# Altium schematic symbol library SamacSys.SchLib: 113 symbols (part 1 of 2)
Pins are listed as number, name and electrical type; pins without a type are passive.

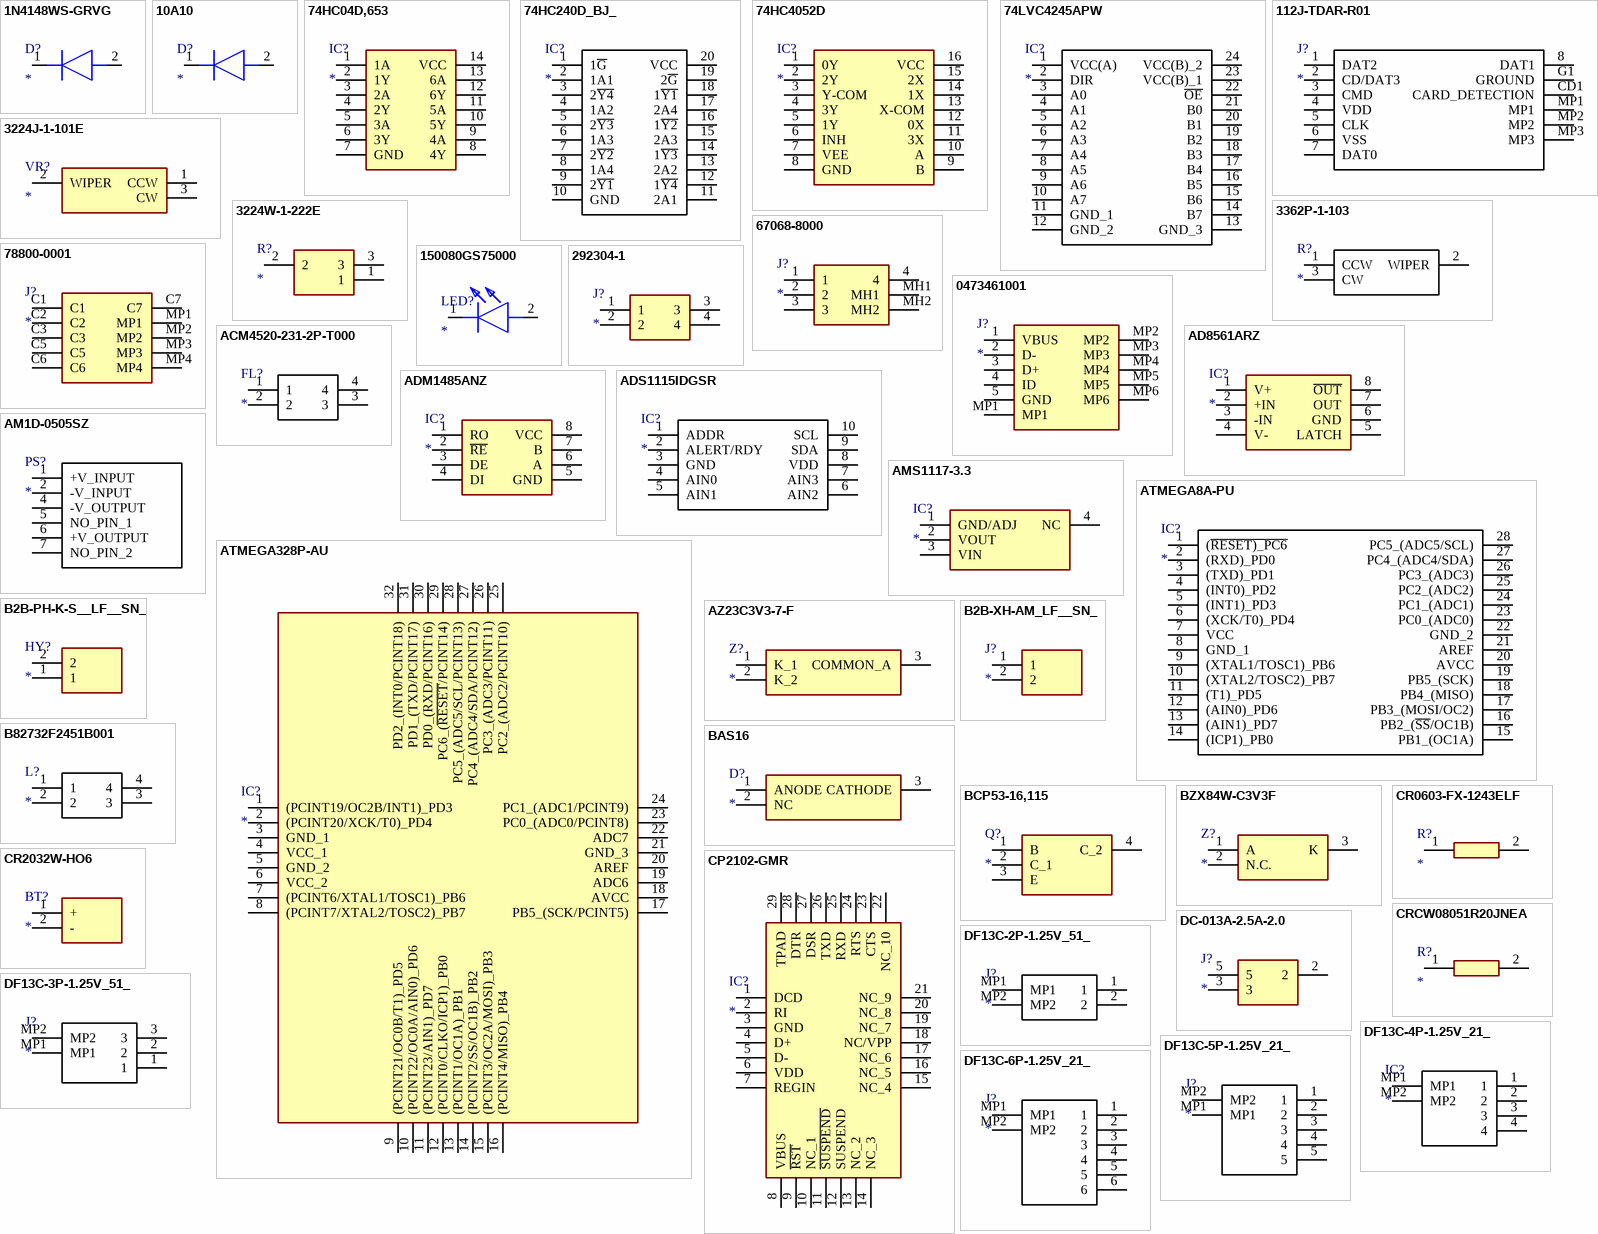
[diagram p0: symbols 1N4148WS-GRVG to DF13C-6P-1.25V_21_]

## 1N4148WS-GRVG
designator D?
Diode; Manufacturer_Name: Taiwan Semiconductor; Manufacturer_Part_Number: 1N4148WS-GRVG; Datasheet Link: https://www.mouser.co.uk/datasheet/2/395/1N4148WS_G_B14-1918089.pdf; Height: 1.1mm
footprint 1N4148WSGRVG
pins: 1 K, 2 A

## 10A10
designator D?
Diode; Manufacturer_Name: Rectron; Manufacturer_Part_Number: 10A10; Datasheet Link: https://www.rectron.com/data_sheets/10a05-10a10.pdf; Arrow Part Number: 10A10; Arrow Price/Stock: https://www.arrow.com/en/products/10a10/rectron
footprint DIOAD4425W130L885D885
pins: 1 K, 2 A

## 74HC04D,653
designator IC?
Integrated Circuit; Manufacturer_Name: Nexperia; Manufacturer_Part_Number: 74HC04D,653; Datasheet Link: https://assets.nexperia.com/documents/data-sheet/74HC_HCT04.pdf; Height: 1.75mm; Mouser Part Number: 771-74HC04D-T; Mouser Price/Stock: https://www.mouser.co.uk/ProductDetail/Nexperia/74HC04D653?qs=P62ublwmbi%252BLi7Vd8cc7xw%3D%3D; Arrow Part Number: 74HC04D,653; Arrow Price/Stock: https://www.arrow.com/en/products/74hc04d653/nexperia?region=nac
footprint SOIC127P600X175-14N
pins: 1 1A, 2 1Y, 3 2A, 4 2Y, 5 3A, 6 3Y, 7 GND, 8 4Y, 9 4A, 10 5Y, 11 5A, 12 6Y, 13 6A, 14 VCC

## 74HC240D_BJ_
designator IC?
Integrated Circuit; Manufacturer_Name: Toshiba; Manufacturer_Part_Number: 74HC240D(BJ); Datasheet Link: https://componentsearchengine.com/Datasheets/34/74HC240D(BJ).pdf; Height: 2.5mm; Mouser Part Number: 757-74HC240DBJ; Mouser Price/Stock: https://www.mouser.co.uk/ProductDetail/Toshiba/74HC240DBJ?qs=lQAVKuKFhkIlogfHm3cRuQ%3D%3D; Arrow Part Number: 74HC240D(BJ); Arrow Price/Stock: https://www.arrow.com/en/products/74hc240d-bj/toshiba?region=nac
footprint SOIC127P1030X250-20N
pins: 1 1~{G}, 2 1A1, 3 2~{Y4}, 4 1A2, 5 2~{Y3}, 6 1A3, 7 2~{Y2}, 8 1A4, 9 2~{Y1}, 10 GND, 11 2A1, 12 1~{Y4}, 13 2A2, 14 1~{Y3}, 15 2A3, 16 1~{Y2}, 17 2A4, 18 1~{Y1}, 19 2~{G}, 20 VCC

## 74HC4052D
designator IC?
Integrated Circuit; Manufacturer_Name: Toshiba; Manufacturer_Part_Number: 74HC4052D; Datasheet Link: https://toshiba.semicon-storage.com/info/docget.jsp?did=37237&prodName=74HC4052D; Height: 1.75mm; Mouser Part Number: 757-74HC4052D; Mouser Price/Stock: https://www.mouser.co.uk/ProductDetail/Toshiba/74HC4052D?qs=y6ZabgHbY%252By4uUVaPpbt4A%3D%3D; Arrow Part Number: 74HC4052D; Arrow Price/Stock: https://www.arrow.com/en/products/74hc4052d/toshiba?region=nac
footprint SOIC127P600X175-16N
pins: 1 0Y, 2 2Y, 3 Y-COM, 4 3Y, 5 1Y, 6 INH, 7 VEE, 8 GND, 9 B, 10 A, 11 3X, 12 0X, 13 X-COM, 14 1X, 15 2X, 16 VCC

## 74LVC4245APW
designator IC?
Integrated Circuit; Manufacturer_Name: Nexperia; Manufacturer_Part_Number: 74LVC4245APW; Datasheet Link: https://componentsearchengine.com/Datasheets/2/74LVC4245APW.pdf; Height: 1.1mm; Mouser Part Number: 771-74LVC4245APW; Mouser Price/Stock: https://www.mouser.co.uk/ProductDetail/Nexperia/74LVC4245APW?qs=KBAwV6Cvgt0pT9QcSc9dJg%3D%3D
footprint SOP65P640X110-24N
pins: 1 VCC(A), 2 DIR, 3 A0, 4 A1, 5 A2, 6 A3, 7 A4, 8 A5, 9 A6, 10 A7, 11 GND_1, 12 GND_2, 13 GND_3, 14 B7, 15 B6, 16 B5, 17 B4, 18 B3, 19 B2, 20 B1, 21 B0, 22 ~{OE}, 23 VCC(B)_1, 24 VCC(B)_2

## 112J-TDAR-R01
designator J?
Connector; Manufacturer_Name: ATTEND; Manufacturer_Part_Number: 112J-TDAR-R01; Datasheet Link: https://cdn.sos.sk/productdata/2c/8b/de324bd3/112j-tdar-r01.pdf; Height: 2mm
footprint 112JTDARR01
pins: 1 DAT2, 2 CD/DAT3, 3 CMD, 4 VDD, 5 CLK, 6 VSS, 7 DAT0, 8 DAT1, CD1 CARD_DETECTION, G1 GROUND, MP1, MP2, MP3

## 3224J-1-101E
designator VR?
Variable Resistor; Manufacturer_Name: Bourns; Manufacturer_Part_Number: 3224J-1-101E; Datasheet Link: https://www.bourns.com/docs/Product-Datasheets/3224.pdf; Height: 3.71mm; Mouser Part Number: 652-3224J-1-101E; Mouser Price/Stock: https://www.mouser.co.uk/ProductDetail/Bourns/3224J-1-101E?qs=UmpSLsh52mWS%252Bx139ndYjw%3D%3D; Arrow Part Number: 3224J-1-101E; Arrow Price/Stock: https://www.arrow.com/en/products/3224j-1-101e/bourns?region=nac
footprint 3224J1101E
pins: 1 CCW, 2 WIPER, 3 CW

## 3224W-1-222E
designator R?
Resistor; Manufacturer_Name: Bourns; Manufacturer_Part_Number: 3224W-1-222E; Datasheet Link: https://www.bourns.com/docs/product-datasheets/3224.pdf?sfvrsn=c872982f_7; Height: 5mm; Mouser Part Number: 652-3224W-1-222E; Mouser Price/Stock: https://www.mouser.co.uk/ProductDetail/Bourns/3224W-1-222E?qs=RXY66VkWzhRyeaZ4vtW0kA%3D%3D; Arrow Part Number: 3224W-1-222E; Arrow Price/Stock: https://www.arrow.com/en/products/3224w-1-222e/bourns?region=nac
footprint 3224W1205E
pins: 1, 2, 3

## 3362P-1-103
designator R?
Resistor; Manufacturer_Name: Bourns; Manufacturer_Part_Number: 3362P-1-103; Datasheet Link: http://www.bourns.com/docs/Product-Datasheets/3362.pdf; Mouser Part Number: 652-3362P-1-103; Mouser Price/Stock: https://www.mouser.co.uk/ProductDetail/Bourns/3362P-1-103?qs=Uf%2FsSBgPTJJhIGut%2FdpuEA%3D%3D; Arrow Part Number: 3362P-1-103; Arrow Price/Stock: https://www.arrow.com/en/products/3362p-1-103/bourns?region=nac
footprint 3362P_1
pins: 1 CCW, 2 WIPER, 3 CW

## 67068-8000
designator J?
Connector; Manufacturer_Name: Molex; Manufacturer_Part_Number: 67068-8000; Datasheet Link: https://www.molex.com/pdm_docs/sd/670688000_sd.pdf; Height: 11mm; Mouser Part Number: 538-67068-8000; Mouser Price/Stock: https://www.mouser.co.uk/ProductDetail/Molex/67068-8000?qs=N76qWb2E9MLsLGBiHvIzzg%3D%3D
footprint 670688000
pins: 1, 2, 3, 4, MH1, MH2

## 78800-0001
designator J?
Connector; Manufacturer_Name: Molex; Manufacturer_Part_Number: 78800-0001; Datasheet Link: https://www.molex.com/pdm_docs/sd/788000001_sd.pdf; Height: 1mm; Mouser Part Number: 538-78800-0001; Mouser Price/Stock: https://www.mouser.co.uk/ProductDetail/Molex/78800-0001?qs=aW78vNDzAorsg%2FJdp7zzAQ%3D%3D
footprint 788000001
pins: C1, C2, C3, C5, C6, C7, MP1, MP2, MP3, MP4

## 150080GS75000
designator LED?
LED; Manufacturer_Name: Wurth Elektronik; Manufacturer_Part_Number: 150080GS75000; Datasheet Link: https://katalog.we-online.com/led/datasheet/150080GS75000.pdf; Height: 0.8mm; Mouser Part Number: 710-150080GS75000; Mouser Price/Stock: https://www.mouser.co.uk/ProductDetail/Wurth-Elektronik/150080GS75000?qs=2kOmHSv6VfQRoTEZVk1mGA%3D%3D
footprint LEDM2012X80N
pins: 1 K, 2 A

## 292304-1
designator J?
Connector; Manufacturer_Name: TE Connectivity; Manufacturer_Part_Number: 292304-1; Datasheet Link: https://www.te.com/commerce/DocumentDelivery/DDEController?Action=srchrtrv&DocNm=7-1773442-0&DocType=Data+Sheet&DocLang=English&PartCntxt=292304-1&DocFormat=pdf; Mouser Part Number: 571-292304-1; Mouser Price/Stock: https://www.mouser.co.uk/ProductDetail/TE-Connectivity/292304-1?qs=G%2F5vCLrg9vwiXeMJMHNpsA%3D%3D; Arrow Part Number: 292304-1; Arrow Price/Stock: https://www.arrow.com/en/products/292304-1/te-connectivity?region=europe
footprint 292304
pins: 1, 2, 3, 4

## 0473461001
designator J?
Connector; Manufacturer_Name: Molex; Manufacturer_Part_Number: 0473461001; Datasheet Link: https://componentsearchengine.com/Datasheets/1/0473461001.pdf; Height: 2.45mm; Mouser Part Number: N/A; Mouser Price/Stock: https://www.mouser.co.uk/ProductDetail/Molex/0473461001?qs=2bnkQPT%252BPafTZgGVt%2FOGfA%3D%3D; Arrow Part Number: 0473461001; Arrow Price/Stock: https://www.arrow.com/en/products/0473461001/molex?region=nac
footprint 0473461001
pins: 1 VBUS, 2 D-, 3 D+, 4 ID, 5 GND, MP1, MP2, MP3, MP4, MP5, MP6

## ACM4520-231-2P-T000
designator FL?
Filter; Manufacturer_Name: TDK; Manufacturer_Part_Number: ACM4520-231-2P-T000; Datasheet Link: https://product.tdk.com/system/files/dam/doc/product/emc/emc/cmf_cmc/catalog/cmf_commercial_power_acm4520_en.pdf; Height: 2mm; Mouser Part Number: 810-ACM45202312PT000; Mouser Price/Stock: https://www.mouser.co.uk/ProductDetail/TDK/ACM4520-231-2P-T000?qs=5GteYzHiykb46N2hyQaQCQ%3D%3D; Arrow Part Number: ACM4520-231-2P-T000; Arrow Price/Stock: https://www.arrow.com/en/products/acm4520-231-2p-t000/tdk?region=nac
footprint ACM45204212PT000
pins: 1, 2, 3, 4

## AD8561ARZ
designator IC?
Integrated Circuit; Manufacturer_Name: Analog Devices; Manufacturer_Part_Number: AD8561ARZ; Datasheet Link: https://www.analog.com/media/en/technical-documentation/data-sheets/AD8561.pdf; Height: 1.75mm; Mouser Part Number: 584-AD8561ARZ; Mouser Price/Stock: https://www.mouser.co.uk/ProductDetail/Analog-Devices/AD8561ARZ/?qs=%2FtpEQrCGXCwrhzI1IeoroA%3D%3D; Arrow Part Number: AD8561ARZ; Arrow Price/Stock: https://www.arrow.com/en/products/ad8561arz/analog-devices
footprint SOIC127P600X175-8N
pins: 1 V+, 2 +IN, 3 -IN, 4 V-, 5 LATCH, 6 GND, 7 OUT, 8 ~{OUT}

## ADM1485ANZ
designator IC?
Integrated Circuit; Manufacturer_Name: Analog Devices; Manufacturer_Part_Number: ADM1485ANZ; Datasheet Link: http://www.analog.com/media/en/technical-documentation/data-sheets/ADM1485.pdf; Height: 5.33mm; Mouser Part Number: 584-ADM1485ANZ; Mouser Price/Stock: https://www.mouser.co.uk/ProductDetail/Analog-Devices/ADM1485ANZ?qs=BpaRKvA4VqHXMR8sg0zYeQ%3D%3D; Arrow Part Number: ADM1485ANZ; Arrow Price/Stock: https://www.arrow.com/en/products/adm1485anz/analog-devices
footprint DIP794W56P254L959H533Q8N
pins: 1 RO, 2 ~{RE}, 3 DE, 4 DI, 5 GND, 6 A, 7 B, 8 VCC

## ADS1115IDGSR
designator IC?
Integrated Circuit; Manufacturer_Name: Texas Instruments; Manufacturer_Part_Number: ADS1115IDGSR; Datasheet Link: http://www.ti.com/lit/gpn/ADS1115; Height: 1.1mm; Mouser Part Number: 595-ADS1115IDGSR; Mouser Price/Stock: https://www.mouser.co.uk/ProductDetail/Texas-Instruments/ADS1115IDGSR?qs=IK5e5L0zOXjKCJoVMhYO%2FQ%3D%3D; Arrow Part Number: ADS1115IDGSR; Arrow Price/Stock: https://www.arrow.com/en/products/ads1115idgsr/texas-instruments?region=nac
footprint SOP50P490X110-10N
pins: 1 ADDR, 2 ALERT/RDY, 3 GND, 4 AIN0, 5 AIN1, 6 AIN2, 7 AIN3, 8 VDD, 9 SDA, 10 SCL

## AM1D-0505SZ
designator PS?
Power Supply; Manufacturer_Name: aimtec; Manufacturer_Part_Number: AM1D-0505SZ; Datasheet Link: https://www.arrow.com/en/products/am1d-0505sz/aimtec; Height: 10.5mm; Arrow Part Number: AM1D-0505SZ; Arrow Price/Stock: https://www.arrow.com/en/products/am1d-0505sz/aimtec
footprint AM1D0505SZ
pins: 1 +V_INPUT, 2 -V_INPUT, 4 -V_OUTPUT, 5 NO_PIN_1, 6 +V_OUTPUT, 7 NO_PIN_2

## AMS1117-3.3
designator IC?
Integrated Circuit; Manufacturer_Name: Advanced; Manufacturer_Part_Number: AMS1117-3.3; Datasheet Link: https://datasheet.datasheetarchive.com/originals/distributors/Datasheets-28/DSA-550594.pdf; Height: 1.8mm
footprint SOT229P700X180-4N
pins: 1 GND/ADJ, 2 VOUT, 3 VIN, 4 NC

## ATMEGA8A-PU
designator IC?
Integrated Circuit; Manufacturer_Name: Microchip; Manufacturer_Part_Number: ATMEGA8A-PU; Datasheet Link: http://www.atmel.com/images/atmel-8159-8-bit-avr-microcontroller-atmega8a_summary.pdf; Height: 4.572mm; Mouser Part Number: 556-ATMEGA8A-PU; Mouser Price/Stock: https://www.mouser.co.uk/ProductDetail/Microchip-Technology/ATMEGA8A-PU?qs=iKytVS9glgYDJuUgqldMDA%3D%3D; Arrow Part Number: ATMEGA8A-PU; Arrow Price/Stock: https://www.arrow.com/en/products/atmega8a-pu/microchip-technology?region=nac
footprint DIP794W53P254L3467H457Q28N
pins: 1 (~{RESET)_PC6}, 2 (RXD)_PD0, 3 (TXD)_PD1, 4 (INT0)_PD2, 5 (INT1)_PD3, 6 (XCK/T0)_PD4, 7 VCC, 8 GND_1, 9 (XTAL1/TOSC1)_PB6, 10 (XTAL2/TOSC2)_PB7, 11 (T1)_PD5, 12 (AIN0)_PD6, 13 (AIN1)_PD7, 14 (ICP1)_PB0, 15 PB1_(OC1A), 16 PB2_(~{SS}/OC1B), 17 PB3_(MOSI/OC2), 18 PB4_(MISO), 19 PB5_(SCK), 20 AVCC, 21 AREF, 22 GND_2, 23 PC0_(ADC0), 24 PC1_(ADC1), 25 PC2_(ADC2), 26 PC3_(ADC3), 27 PC4_(ADC4/SDA), 28 PC5_(ADC5/SCL)

## ATMEGA328P-AU
designator IC?
Integrated Circuit; Manufacturer_Name: Microchip; Manufacturer_Part_Number: ATMEGA328P-AU; Datasheet Link: https://componentsearchengine.com/Datasheets/2/ATMEGA328P-AU.pdf; Height: 1.2mm; Mouser Part Number: 556-ATMEGA328P-AU; Mouser Price/Stock: https://www.mouser.co.uk/ProductDetail/Microchip-Technology-Atmel/ATMEGA328P-AU?qs=K8BHR703ZXiCmmgp6%2FGNmQ%3D%3D; Arrow Part Number: ATMEGA328P-AU; Arrow Price/Stock: https://www.arrow.com/en/products/atmega328p-au/microchip-technology?region=nac
footprint QFP80P900X900X120-32N
pins: 1 (PCINT19/OC2B/INT1)_PD3, 2 (PCINT20/XCK/T0)_PD4, 3 GND_1, 4 VCC_1, 5 GND_2, 6 VCC_2, 7 (PCINT6/XTAL1/TOSC1)_PB6, 8 (PCINT7/XTAL2/TOSC2)_PB7, 9 (PCINT21/OC0B/T1)_PD5, 10 (PCINT22/OC0A/AIN0)_PD6, 11 (PCINT23/AIN1)_PD7, 12 (PCINT0/CLKO/ICP1)_PB0, 13 (PCINT1/OC1A)_PB1, 14 (PCINT2/SS/OC1B)_PB2, 15 (PCINT3/OC2A/MOSI)_PB3, 16 (PCINT4/MISO)_PB4, 17 PB5_(SCK/PCINT5), 18 AVCC, 19 ADC6, 20 AREF, 21 GND_3, 22 ADC7, 23 PC0_(ADC0/PCINT8), 24 PC1_(ADC1/PCINT9), 25 PC2_(ADC2/PCINT10), 26 PC3_(ADC3/PCINT11), 27 PC4_(ADC4/SDA/PCINT12), 28 PC5_(ADC5/SCL/PCINT13), 29 PC6_(~{RESET}/PCINT14), 30 PD0_(RXD/PCINT16), 31 PD1_(TXD/PCINT17), 32 PD2_(INT0/PCINT18)

## AZ23C3V3-7-F
designator Z?
Zener Diode; Manufacturer_Name: Diodes Inc.; Manufacturer_Part_Number: AZ23C3V3-7-F; Datasheet Link: http://uk.rs-online.com/web/p/products/1220006; Height: 1.2mm; Mouser Part Number: 621-AZ23C3V3-7-F; Mouser Price/Stock: https://www.mouser.co.uk/ProductDetail/Diodes-Incorporated/AZ23C3V3-7-F?qs=rGAXPo9uwV1wE7LTrP7l4Q%3D%3D; Arrow Part Number: AZ23C3V3-7-F; Arrow Price/Stock: https://www.arrow.com/en/products/az23c3v3-7-f/diodes-incorporated
footprint SOT96P240X120-3N
pins: 1 K_1, 2 K_2, 3 COMMON_A

## B2B-PH-K-S__LF__SN_
designator HY?
Circulator or Directional Coupler; Manufacturer_Name: JST (JAPAN SOLDERLESS TERMINALS); Manufacturer_Part_Number: B2B-PH-K-S (LF)(SN); Datasheet Link: http://www.jst-mfg.com/product/pdf/eng/ePH.pdf; Height: 6mm
footprint B2BPHKSLFSN
pins: 1, 2

## B2B-XH-AM_LF__SN_
designator J?
Connector; Manufacturer_Name: JST (JAPAN SOLDERLESS TERMINALS); Manufacturer_Part_Number: B2B-XH-AM(LF)(SN); Datasheet Link: https://www.jst-mfg.com/product/pdf/eng/eXH.pdf; Height: 7mm; Arrow Part Number: B2B-XH-AM(LF)(SN); Arrow Price/Stock: https://www.arrow.com/en/products/b2b-xh-am-lf-sn/jst-manufacturing?region=europe
footprint B2BXHAMLFSN
pins: 1, 2

## B82732F2451B001
designator L?
Inductor; Manufacturer_Name: TDK; Manufacturer_Part_Number: B82732F2451B001; Datasheet Link: https://product.tdk.com/system/files/dam/doc/product/emc/emc/line-filter/data_sheet/30/db/ind_2008/b82732f.pdf; Height: 13.5mm; Mouser Part Number: 871-B82732F2451B001; Mouser Price/Stock: https://www.mouser.co.uk/ProductDetail/EPCOS-TDK/B82732F2451B001?qs=pGJ4H8VyKtVb1KdZtv%252B2tQ%3D%3D; Arrow Part Number: B82732F2451B001; Arrow Price/Stock: https://www.arrow.com/en/products/b82732f2451b001/epcos-tdk
footprint B82732F2451B001
pins: 1, 2, 3, 4

## BAS16
designator D?
Diode; Manufacturer_Name: Infineon; Manufacturer_Part_Number: BAS16; Datasheet Link: https://www.infineon.com/dgdl/Infineon-BAS16SERIES-DS-v01_01-en.pdf?fileId=db3a30431400ef6801141b93811b03ff; Height: 1.1mm
footprint SOT95P240X110-3N
pins: 1 ANODE, 2 NC, 3 CATHODE

## BCP53-16,115
designator Q?
Transistor BJT NPN; Manufacturer_Name: Nexperia; Manufacturer_Part_Number: BCP53-16,115; Datasheet Link: https://assets.nexperia.com/documents/data-sheet/BCP53_BCX53_BC53PA.pdf; Height: 1.8mm; Mouser Part Number: 771-BCP53-16115; Mouser Price/Stock: https://www.mouser.co.uk/ProductDetail/Nexperia/BCP53-16115?qs=me8TqzrmIYXZPUhLmlB%252BRQ%3D%3D; Arrow Part Number: BCP53-16,115; Arrow Price/Stock: https://www.arrow.com/en/products/bcp53-16115/nexperia?region=nac
footprint SOT230P700X180-4N
pins: 1 B, 2 C_1, 3 E, 4 C_2

## BZX84W-C3V3F
designator Z?
Zener Diode; Manufacturer_Name: Nexperia; Manufacturer_Part_Number: BZX84W-C3V3F; Datasheet Link: https://assets.nexperia.com/documents/data-sheet/BZX84W_SER.pdf; Height: 1.1mm; Mouser Part Number: 771-BZX84W-C3V3F; Mouser Price/Stock: https://www.mouser.co.uk/ProductDetail/Nexperia/BZX84W-C3V3F?qs=MLItCLRbWsyTlmZP9y0kXg%3D%3D; Arrow Part Number: BZX84W-C3V3F; Arrow Price/Stock: https://www.arrow.com/en/products/bzx84w-c3v3f/nexperia
footprint SOT65P210X110-3N
pins: 1 A, 2 N.C., 3 K

## CP2102-GMR
designator IC?
Integrated Circuit; Manufacturer_Name: Silicon Labs; Manufacturer_Part_Number: CP2102-GMR; Datasheet Link: https://www.silabs.com/Support%20Documents/TechnicalDocs/CP2102-9.pdf; Height: 1mm; Mouser Part Number: 634-CP2102-GMR; Mouser Price/Stock: https://www.mouser.co.uk/ProductDetail/Silicon-Labs/CP2102-GMR?qs=cNyzPCcHMUWu%2FiPhR8KQAw%3D%3D; Arrow Part Number: CP2102-GMR; Arrow Price/Stock: https://www.arrow.com/en/products/cp2102-gmr/silicon-labs?region=nac
footprint QFN50P500X500X100-29N-D
pins: 1 DCD, 2 RI, 3 GND, 4 D+, 5 D-, 6 VDD, 7 REGIN, 8 VBUS, 9 ~{RST}, 10 NC_1, 11 ~{SUSPEND}, 12 SUSPEND, 13 NC_2, 14 NC_3, 15 NC_4, 16 NC_5, 17 NC_6, 18 NC/VPP, 19 NC_7, 20 NC_8, 21 NC_9, 22 NC_10, 23 CTS, 24 RTS, 25 RXD, 26 TXD, 27 DSR, 28 DTR, 29 TPAD

## CR0603-FX-1243ELF
designator R?
Resistor; Manufacturer_Name: Bourns; Manufacturer_Part_Number: CR0603-FX-1243ELF; Datasheet Link: https://www.bourns.com/pdfs/chpreztr.pdf; Height: 0.55mm; Mouser Part Number: 652-CR0603FX-1243ELF; Mouser Price/Stock: https://www.mouser.com/Search/Refine.aspx?Keyword=652-CR0603FX-1243ELF; Arrow Part Number: CR0603-FX-1243ELF; Arrow Price/Stock: https://www.arrow.com/en/products/cr0603-fx-1243elf/bourns
footprint RESC1608X55N
pins: 1, 2

## CR2032W-HO6
designator BT?
Battery; Manufacturer_Name: Murata Electronics; Manufacturer_Part_Number: CR2032W-HO6; Datasheet Link: https://www.arrow.com/en/products/cr2032w-ho6/murata-manufacturing; Height: 3.8mm; Mouser Part Number: 81-CR2032W-HO6; Mouser Price/Stock: https://www.mouser.co.uk/ProductDetail/Murata-Electronics/CR2032W-HO6?qs=GBLSl2AkiruiOpMwGL%2Figg%3D%3D; Arrow Part Number: CR2032W-HO6; Arrow Price/Stock: https://www.arrow.com/en/products/cr2032w-ho6/murata-manufacturing?region=nac
footprint CR2032WHO6
pins: 1 +, 2 -

## CRCW08051R20JNEA
designator R?
Resistor; Manufacturer_Name: Vishay; Manufacturer_Part_Number: CRCW08051R20JNEA; Datasheet Link: http://www.vishay.com/docs/20035/dcrcwe3.pdf; Height: 0.5mm; Mouser Part Number: 71-CRCW08051R20JNEA; Mouser Price/Stock: https://www.mouser.com/Search/Refine.aspx?Keyword=71-CRCW08051R20JNEA
footprint RESC2012X50N
pins: 1, 2

## DC-013A-2.5A-2.0
designator J?
Connector; Manufacturer_Name: XKB Connectivity; Manufacturer_Part_Number: DC-013A-2.5A-2.0; Datasheet Link: http://www.helloxkb.com/public/images/pdf/DC-013A-2.5A-2.0.pdf; Height: 13.5mm
footprint DC013A25A20
pins: 2, 3, 5

## DF13C-2P-1.25V_51_
designator J?
Connector; Manufacturer_Name: Hirose; Manufacturer_Part_Number: DF13C-2P-1.25V(51); Datasheet Link: https://datasheet.datasheetarchive.com/originals/distributors/SFDatasheet-1/sf-00023455.pdf; Height: 5.8mm; Mouser Part Number: 798-DF13C-2P-1.25V51; Mouser Price/Stock: https://www.mouser.co.uk/ProductDetail/Hirose-Connector/DF13C-2P-1.25V51?qs=Ux3WWAnHpjA%252B9rGcuztzMg%3D%3D; Arrow Part Number: DF13C-2P-1.25V(51); Arrow Price/Stock: https://www.arrow.com/en/products/df13c-2p-1.25v-51/hirose-electric
footprint DF13C2P125V51
pins: 1, 2, MP1, MP2

## DF13C-3P-1.25V_51_
designator J?
Connector; Manufacturer_Name: Hirose; Manufacturer_Part_Number: DF13C-3P-1.25V(51); Datasheet Link: https://docs.rs-online.com/ac21/0900766b81133941.pdf; Mouser Part Number: 798-DF13C-3P-1.25V51; Mouser Price/Stock: https://www.mouser.co.uk/ProductDetail/Hirose-Connector/DF13C-3P-1.25V51?qs=Ux3WWAnHpjA9%2FWOz3nSyXA%3D%3D
footprint DF13C3P125V51
pins: 1, 2, 3, MP1, MP2

## DF13C-4P-1.25V_21_
designator IC?
Integrated Circuit; Manufacturer_Name: Hirose; Manufacturer_Part_Number: DF13C-4P-1.25V(21); Datasheet Link: https://componentsearchengine.com/Datasheets/1/DF13C-4P-1.25V(21).pdf; Height: 4.85mm; Mouser Part Number: 798-DF13C-4P-1.25V21; Mouser Price/Stock: https://www.mouser.co.uk/ProductDetail/Hirose-Connector/DF13C-4P-1.25V21?qs=Ux3WWAnHpjBKfSfYue4NCw%3D%3D
footprint DF13C4P125V21
pins: 1, 2, 3, 4, MP1, MP2

## DF13C-5P-1.25V_21_
designator J?
Connector; Manufacturer_Name: Hirose; Manufacturer_Part_Number: DF13C-5P-1.25V(21); Datasheet Link: https://datasheet.datasheetarchive.com/originals/distributors/SFDatasheet-1/sf-00023455.pdf; Height: 4.95mm; Mouser Part Number: 798-DF13C-5P-1.25V21; Mouser Price/Stock: https://www.mouser.co.uk/ProductDetail/Hirose-Connector/DF13C-5P-1.25V21?qs=Ux3WWAnHpjByKp4ygGouaQ%3D%3D
footprint DF13C5P125V21
pins: 1, 2, 3, 4, 5, MP1, MP2

## DF13C-6P-1.25V_21_
designator J?
Connector; Manufacturer_Name: Hirose; Manufacturer_Part_Number: DF13C-6P-1.25V(21); Datasheet Link: https://datasheet.lcsc.com/szlcsc/Hirose-HRS-DF13C-6P-1-25V-21_C116888.pdf; Height: 4.95mm; Mouser Part Number: 798-DF13C-6P-1.25V21; Mouser Price/Stock: https://www.mouser.co.uk/ProductDetail/Hirose-Connector/DF13C-6P-1.25V21?qs=Ux3WWAnHpjD%252BPO3PwpzBaA%3D%3D; Arrow Part Number: DF13C-6P-1.25V(21); Arrow Price/Stock: https://www.arrow.com/en/products/df13c-6p-1.25v-21/hirose-electric?region=nac
footprint DF13C6P125V21
pins: 1, 2, 3, 4, 5, 6, MP1, MP2

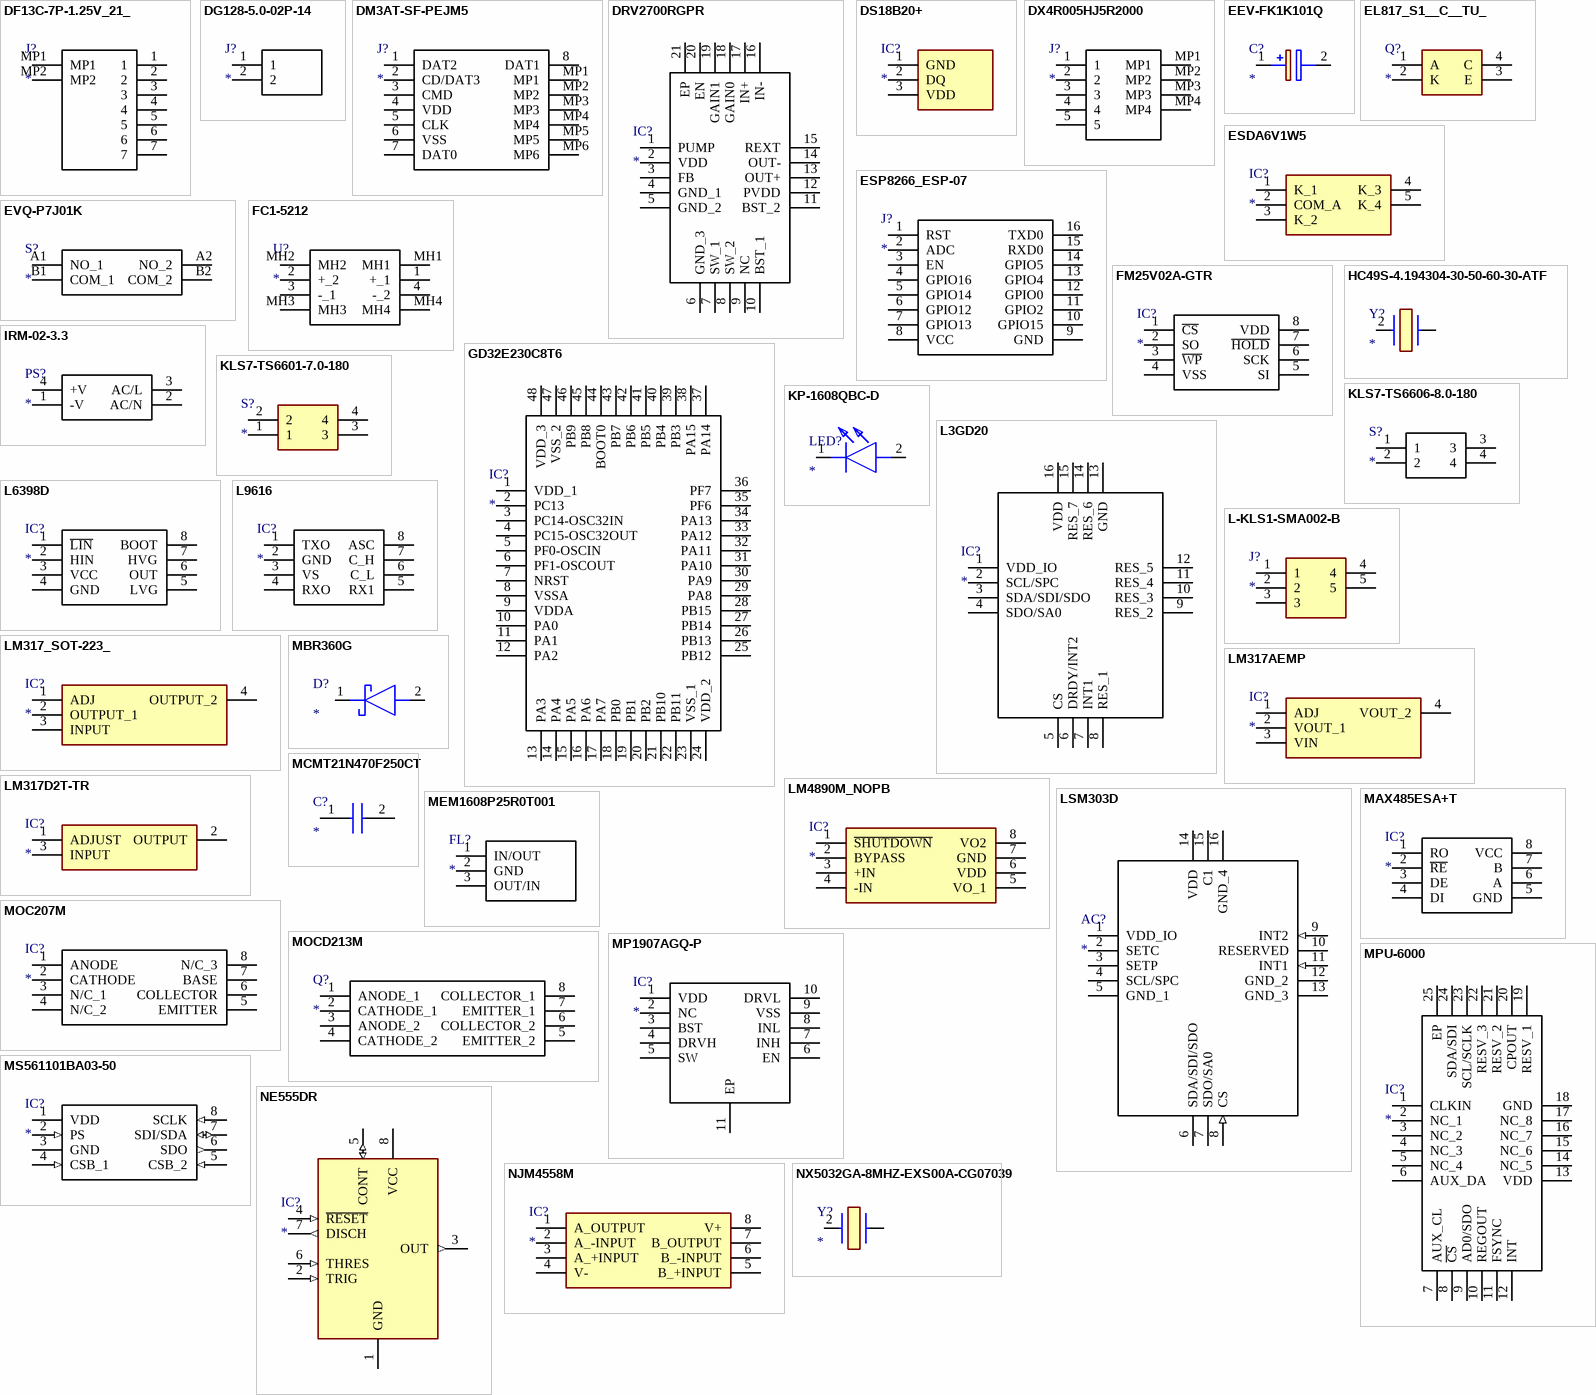
[diagram p1: symbols DF13C-7P-1.25V_21_ to NX5032GA-8MHZ-EXS00A-CG07039]

## DF13C-7P-1.25V_21_
designator J?
Connector; Manufacturer_Name: Hirose; Manufacturer_Part_Number: DF13C-7P-1.25V(21); Datasheet Link: https://www.hirose.com/product/document?clcode=CL0536-0109-0-76&productname=DF13-10P-1.25DSA(76)&series=DF13&documenttype=Catalog&lang=en&documentid=D31687_en; Height: 4.95mm; Mouser Part Number: 798-DF13C-7P-1.25V21; Mouser Price/Stock: https://www.mouser.co.uk/ProductDetail/Hirose-Connector/DF13C-7P-125V21?qs=Ux3WWAnHpjC684%252B%252BgYKKhg%3D%3D
footprint DF13C7P125V21
pins: 1, 2, 3, 4, 5, 6, 7, MP1, MP2

## DG128-5.0-02P-14
designator J?
Connector; Manufacturer_Name: Degson; Manufacturer_Part_Number: DG128-5.0-02P-14; Datasheet Link: https://www.degson.com/index.php?a=downloadFile&id=1097383&name=%27ZmlsZTQ=%27&lang=en; Height: 14.26mm
footprint DG1285002P14
pins: 1, 2

## DM3AT-SF-PEJM5
designator J?
Connector; Manufacturer_Name: Hirose; Manufacturer_Part_Number: DM3AT-SF-PEJM5; Datasheet Link: https://datasheet.lcsc.com/szlcsc/Hirose-HRS-DM3AT-SF-PEJM5_C114218.pdf; Height: 1.83mm; Mouser Part Number: 798-DM3AT-SF-PEJM5; Mouser Price/Stock: https://www.mouser.co.uk/ProductDetail/Hirose-Connector/DM3AT-SF-PEJM5?qs=LZSZKJVF%252B2WTDKp%252BR7IYAQ%3D%3D
footprint DM3ATSFPEJM5
pins: 1 DAT2, 2 CD/DAT3, 3 CMD, 4 VDD, 5 CLK, 6 VSS, 7 DAT0, 8 DAT1, MP1, MP2, MP3, MP4, MP5, MP6

## DRV2700RGPR
designator IC?
Integrated Circuit; Manufacturer_Name: Texas Instruments; Manufacturer_Part_Number: DRV2700RGPR; Datasheet Link: http://www.ti.com/lit/gpn/drv2700; Height: 1mm; Mouser Part Number: 595-DRV2700RGPR; Mouser Price/Stock: https://www.mouser.co.uk/ProductDetail/Texas-Instruments/DRV2700RGPR?qs=WuTGPxIYnC4Mk9DWLhtXMw%3D%3D; Arrow Part Number: DRV2700RGPR; Arrow Price/Stock: https://www.arrow.com/en/products/drv2700rgpr/texas-instruments?region=nac
footprint QFN50P400X400X100-21N-D
pins: 1 PUMP, 2 VDD, 3 FB, 4 GND_1, 5 GND_2, 6 GND_3, 7 SW_1, 8 SW_2, 9 NC, 10 BST_1, 11 BST_2, 12 PVDD, 13 OUT+, 14 OUT-, 15 REXT, 16 IN-, 17 IN+, 18 GAIN0, 19 GAIN1, 20 EN, 21 EP

## DS18B20+
designator IC?
Integrated Circuit; Manufacturer_Name: Maxim Integrated; Manufacturer_Part_Number: DS18B20+; Datasheet Link: https://ms.componentsearchengine.com/Datasheets/2/DS18B20+.pdf; Height: 4.95mm; Mouser Part Number: 700-DS18B20+; Mouser Price/Stock: https://www.mouser.co.uk/ProductDetail/Maxim-Integrated/DS18B20%2b?qs=7H2Jq%252ByxpJKegCKabDbglA%3D%3D; Arrow Part Number: DS18B20+; Arrow Price/Stock: https://www.arrow.com/en/products/ds18b20/maxim-integrated?region=nac
footprint DS18B20
pins: 1 GND, 2 DQ, 3 VDD

## DX4R005HJ5R2000
designator J?
Connector; Manufacturer_Name: JAE Electronics; Manufacturer_Part_Number: DX4R005HJ5R2000; Datasheet Link: https://datasheet.datasheetarchive.com/originals/dk/DKDS-13/256527.pdf; Height: 2.55mm; Mouser Part Number: 656-DX4R005HJ5R2000; Mouser Price/Stock: https://www.mouser.co.uk/ProductDetail/JAE-Electronics/DX4R005HJ5R2000?qs=ckml%252BxrUdjRCojuv779Rbg%3D%3D
footprint DX4R005HJ5R2000
pins: 1, 2, 3, 4, 5, MP1, MP2, MP3, MP4

## EEV-FK1K101Q
designator C?
Capacitor Polarised; Manufacturer_Name: Panasonic; Manufacturer_Part_Number: EEV-FK1K101Q; Datasheet Link: http://industrial.panasonic.com/cdbs/www-data/pdf/RDE0000/ABA0000C1181.pdf; Height: 15mm; Mouser Part Number: 667-EEV-FK1K101Q; Mouser Price/Stock: https://www.mouser.co.uk/ProductDetail/Panasonic/EEV-FK1K101Q?qs=E4hy2mN5dtmkz2M2wNGN2w%3D%3D; Arrow Part Number: EEV-FK1K101Q; Arrow Price/Stock: https://www.arrow.com/en/products/eev-fk1k101q/panasonic
footprint EEEFK0J332AQ
pins: 1 +, 2 -

## EL817_S1__C__TU_
designator Q?
Phototransistor; Manufacturer_Name: Everlight; Manufacturer_Part_Number: EL817(S1)(C)(TU); Datasheet Link: https://eu.mouser.com/datasheet/2/143/201407061833256242-365628.pdf; Height: 3.9mm; Mouser Part Number: 638-EL817S1CTU; Mouser Price/Stock: https://www.mouser.co.uk/ProductDetail/Everlight/EL817S1CTU?qs=8PzhAHr7IdNLRo4JydPHmQ%3D%3D; Arrow Part Number: EL817(S1)(C)(TU); Arrow Price/Stock: https://www.arrow.com/en/products/el817s1-c-tu/everlight-electronics?region=nac
footprint SOP254P1030X390-4N
pins: 1 A, 2 K, 3 E, 4 C

## ESDA6V1W5
designator IC?
Integrated Circuit; Manufacturer_Name: STMicroelectronics; Manufacturer_Part_Number: ESDA6V1W5; Datasheet Link: http://www.st.com/st-web-ui/static/active/en/resource/technical/document/datasheet/CD00064033.pdf; Height: 1.1mm; Mouser Part Number: 511-ESDA6V1W5; Mouser Price/Stock: https://www.mouser.co.uk/ProductDetail/STMicroelectronics/ESDA6V1W5?qs=9NrABl3fj%2FrhT5vdkOmqXg%3D%3D; Arrow Part Number: ESDA6V1W5; Arrow Price/Stock: https://www.arrow.com/en/products/esda6v1w5/stmicroelectronics?region=nac
footprint SOT65P210X110-5N
pins: 1 K_1, 2 COM_A, 3 K_2, 4 K_3, 5 K_4

## ESP8266_ESP-07
designator J?
Connector; Manufacturer_Name: Ai-Thinker; Manufacturer_Part_Number: ESP8266 ESP-07; Datasheet Link: http://datasheet.octopart.com/ESP-07S-RF-Solutions-datasheet-104506015.pdf; Height: 3mm
footprint ESP8266ESP07
pins: 1 RST, 2 ADC, 3 EN, 4 GPIO16, 5 GPIO14, 6 GPIO12, 7 GPIO13, 8 VCC, 9 GND, 10 GPIO15, 11 GPIO2, 12 GPIO0, 13 GPIO4, 14 GPIO5, 15 RXD0, 16 TXD0

## EVQ-P7J01K
designator S?
Switch; Manufacturer_Name: Panasonic; Manufacturer_Part_Number: EVQ-P7J01K; Datasheet Link: https://4donline.ihs.com/images/VipMasterIC/IC/PANA/PANAS38692/PANAS38692-1.pdf?hkey=EF798316E3902B6ED9A73243A3159BB0; Height: 1.35mm; Mouser Part Number: 667-EVQ-P7J01K; Mouser Price/Stock: https://www.mouser.co.uk/ProductDetail/Panasonic/EVQ-P7J01K?qs=WwqriLBepZtO9TMXjcvniA%3D%3D
footprint EVQP7J01K
pins: A1 NO_1, A2 NO_2, B1 COM_1, B2 COM_2

## FC1-5212
designator U?
Undefined or Miscellaneous; Manufacturer_Name: KLS Electronic; Manufacturer_Part_Number: FC1-5212; Datasheet Link: https://static.chipdip.ru/lib/731/DOC002731316.pdf; Height: 21.91mm
footprint FC15212
pins: 1 +_1, 2 +_2, 3 -_1, 4 -_2, MH1, MH2, MH3, MH4

## FM25V02A-GTR
designator IC?
Integrated Circuit; Manufacturer_Name: Cypress Semiconductor; Manufacturer_Part_Number: FM25V02A-GTR; Datasheet Link: https://www.cypress.com/file/139666/download; Height: 1.727mm; Mouser Part Number: 727-FM25V02A-GTR; Mouser Price/Stock: https://www.mouser.co.uk/ProductDetail/Cypress-Semiconductor/FM25V02A-GTR?qs=ILgNtqsyH21Sja70fv%2FiBQ%3D%3D; Arrow Part Number: FM25V02A-GTR; Arrow Price/Stock: https://www.arrow.com/en/products/fm25v02a-gtr/cypress-semiconductor?region=nac
footprint SOIC127P602X173-8N
pins: 1 ~{CS}, 2 SO, 3 ~{WP}, 4 VSS, 5 SI, 6 SCK, 7 ~{HOLD}, 8 VDD

## GD32E230C8T6
designator IC?
Integrated Circuit; Manufacturer_Name: GigaDevice Semiconductor (HK) Limited; Manufacturer_Part_Number: GD32E230C8T6; Datasheet Link: https://datasheet5.oss-cn-shanghai.aliyuncs.com/datasheets/gd32/GD32E230xx_Datasheet_Rev1.3.pdf; Height: 1.6mm; Mouser Part Number: 363-GD32E230C8T6; Mouser Price/Stock: https://www.mouser.co.uk/ProductDetail/GigaDevice/GD32E230C8T6?qs=pBJMDPsKWf0g9bin0Em%252BTw%3D%3D
footprint QFP50P900X900X160-48N
pins: 1 VDD_1, 2 PC13, 3 PC14-OSC32IN, 4 PC15-OSC32OUT, 5 PF0-OSCIN, 6 PF1-OSCOUT, 7 NRST, 8 VSSA, 9 VDDA, 10 PA0, 11 PA1, 12 PA2, 13 PA3, 14 PA4, 15 PA5, 16 PA6, 17 PA7, 18 PB0, 19 PB1, 20 PB2, 21 PB10, 22 PB11, 23 VSS_1, 24 VDD_2, 25 PB12, 26 PB13, 27 PB14, 28 PB15, 29 PA8, 30 PA9, 31 PA10, 32 PA11, 33 PA12, 34 PA13, 35 PF6, 36 PF7, 37 PA14, 38 PA15, 39 PB3, 40 PB4, 41 PB5, 42 PB6, 43 PB7, 44 BOOT0, 45 PB8, 46 PB9, 47 VSS_2, 48 VDD_3

## HC49S-4.194304-30-50-60-30-ATF
designator Y?
Crystal or Oscillator; Manufacturer_Name: Multi Comp Pro; Manufacturer_Part_Number: HC49S-4.194304-30-50-60-30-ATF; Datasheet Link: https://www.farnell.com/datasheets/2877048.pdf; Height: 4mm
footprint HC49S419430430506030ATF
pins: 2 CRYSTAL_2, ?1

## IRM-02-3.3
designator PS?
Power Supply; Manufacturer_Name: Mean Well; Manufacturer_Part_Number: IRM-02-3.3; Datasheet Link: http://www.meanwell.com/Upload/PDF/IRM-02/IRM-02-SPEC.PDF; Mouser Part Number: 709-IRM02-3.3; Mouser Price/Stock: https://www.mouser.co.uk/ProductDetail/MEAN-WELL/IRM-02-33?qs=C9r8PV%2F%252BoWOqS8sbyxobNQ%3D%3D; Arrow Part Number: IRM-02-3.3; Arrow Price/Stock: https://www.arrow.com/en/products/irm-02-3.3/mean-well-enterprises?region=nac
footprint IRM-02(PCB-MOUNTING)
pins: 1 -V, 2 AC/N, 3 AC/L, 4 +V

## KLS7-TS6601-7.0-180
designator S?
Switch; Manufacturer_Name: KLS Electronic; Manufacturer_Part_Number: KLS7-TS6601-7.0-180; Datasheet Link: http://www.klsele.com/admin/product_upload/20180516141731L-KLS7-TS6601.pdf; Height: 7mm
footprint KLS7TS660170180
pins: 1, 2, 3, 4

## KLS7-TS6606-8.0-180
designator S?
Switch; Manufacturer_Name: KLS Electronic; Manufacturer_Part_Number: KLS7-TS6606-8.0-180; Datasheet Link: http://www.cnkls.com/admin/product_upload/20120515130927KLS7-TS6606.pdf; Height: 8mm
footprint KLS7TS660680180
pins: 1, 2, 3, 4

## KP-1608QBC-D
designator LED?
LED; Manufacturer_Name: Kingbright; Manufacturer_Part_Number: KP-1608QBC-D; Datasheet Link: https://www.kingbright.com/attachments/file/psearch/000/00/00/KP-1608QBC-D(Ver.24B).pdf; Height: 1.1mm; Mouser Part Number: N/A; Mouser Price/Stock: https://www.mouser.co.uk/ProductDetail/Kingbright/KP-1608QBC-D?qs=2JU0tDl2GZ0HuHAuzYJmHg%3D%3D; Arrow Part Number: KP-1608QBC-D; Arrow Price/Stock: https://www.arrow.com/en/products/kp-1608qbc-d/kingbright?region=europe
footprint KP1608QBCD
pins: 1 K, 2 A

## L3GD20
designator IC?
Integrated Circuit; Manufacturer_Name: STMicroelectronics; Manufacturer_Part_Number: L3GD20; Datasheet Link: http://www.mouser.com/datasheet/2/389/l3gd20-954745.pdf; Height: 1mm; Mouser Part Number: 511-L3GD20; Mouser Price/Stock: https://www.mouser.co.uk/ProductDetail/STMicroelectronics/L3GD20?qs=LYO3r17CQdPwKetw3Km8nw%3D%3D
footprint QFN65P400X400X100-16N
pins: 1 VDD_IO, 2 SCL/SPC, 3 SDA/SDI/SDO, 4 SDO/SA0, 5 CS, 6 DRDY/INT2, 7 INT1, 8 RES_1, 9 RES_2, 10 RES_3, 11 RES_4, 12 RES_5, 13 GND, 14 RES_6, 15 RES_7, 16 VDD

## L6398D
designator IC?
Integrated Circuit; Manufacturer_Name: STMicroelectronics; Manufacturer_Part_Number: L6398D; Datasheet Link: http://www.st.com/web/en/resource/technical/document/datasheet/CD00290377.pdf; Height: 1.75mm; Mouser Part Number: 511-L6398D; Mouser Price/Stock: https://www.mouser.co.uk/ProductDetail/STMicroelectronics/L6398D?qs=0gj%2FgiofzsPEFZ09Ni6E2Q%3D%3D; Arrow Part Number: L6398D; Arrow Price/Stock: https://www.arrow.com/en/products/l6398d/stmicroelectronics?region=nac
footprint SOIC127P600X175-8N
pins: 1 ~{LIN}, 2 HIN, 3 VCC, 4 GND, 5 LVG, 6 OUT, 7 HVG, 8 BOOT

## L9616
designator IC?
Integrated Circuit; Manufacturer_Name: STMicroelectronics; Manufacturer_Part_Number: L9616; Datasheet Link: http://www.st.com/st-web-ui/static/active/en/resource/technical/document/datasheet/CD00002241.pdf; Height: 1.75mm; Mouser Part Number: 511-L9616; Mouser Price/Stock: https://www.mouser.co.uk/ProductDetail/STMicroelectronics/L9616?qs=Au9%252BK7QVGzVbR%252BTIYyk1Fg%3D%3D; Arrow Part Number: L9616; Arrow Price/Stock: https://www.arrow.com/en/products/l9616/stmicroelectronics?region=nac
footprint SOIC127P600X175-8N
pins: 1 TXO, 2 GND, 3 VS, 4 RXO, 5 RX1, 6 C_L, 7 C_H, 8 ASC

## L-KLS1-SMA002-B
designator J?
Connector; Manufacturer_Name: KLS Electronic; Manufacturer_Part_Number: L-KLS1-SMA002-B; Datasheet Link: https://www.rcscomponents.kiev.ua/datasheets/kls1-sma002-b-datasheet.pdf; Height: 9.5mm
footprint LKLS1SMA002B
pins: 1, 2, 3, 4, 5

## LM317_SOT-223_
designator IC?
Integrated Circuit; Manufacturer_Name: Changjiang Electronics Tech (CJ); Manufacturer_Part_Number: LM317(SOT-223); Datasheet Link: https://www.jscj-elec.com/gallery//file/LM317%20SOT-223%20%20V2.0.pdf; Height: 1.8mm
footprint SOT230P700X180-4N
pins: 1 ADJ, 2 OUTPUT_1, 3 INPUT, 4 OUTPUT_2

## LM317AEMP
designator IC?
Integrated Circuit; Manufacturer_Name: Texas Instruments; Manufacturer_Part_Number: LM317AEMP; Datasheet Link: http://www.ti.com/general/docs/lit/getliterature.tsp?genericPartNumber=LM317A&&fileType=pdf; Height: 1.8mm; Mouser Part Number: 926-LM317AEMP; Mouser Price/Stock: https://www.mouser.co.uk/ProductDetail/Texas-Instruments/LM317AEMP?qs=X1J7HmVL2ZGkQwt18De0Dg%3D%3D; Arrow Part Number: LM317AEMP; Arrow Price/Stock: https://www.arrow.com/en/products/lm317aemp/texas-instruments?region=nac
footprint SOT230P700X180-4N
pins: 1 ADJ, 2 VOUT_1, 3 VIN, 4 VOUT_2

## LM317D2T-TR
designator IC?
Integrated Circuit; Manufacturer_Name: STMicroelectronics; Manufacturer_Part_Number: LM317D2T-TR; Datasheet Link: https://www.st.com/resource/en/datasheet/lm217.pdf; Mouser Part Number: 511-LM317D2T-TR; Mouser Price/Stock: https://www.mouser.co.uk/ProductDetail/STMicroelectronics/LM317D2T-TR?qs=D1TrgBM0UaXEvjiszScJ1w%3D%3D; Arrow Part Number: LM317D2T-TR; Arrow Price/Stock: https://www.arrow.com/en/products/lm317d2t-tr/stmicroelectronics?region=nac
footprint STB120N4F6
pins: 1 ADJUST, 2 OUTPUT, 3 INPUT

## LM4890M_NOPB
designator IC?
Integrated Circuit; Manufacturer_Name: Texas Instruments; Manufacturer_Part_Number: LM4890M/NOPB; Datasheet Link: http://www.ti.com/lit/ds/symlink/lm4890.pdf; Height: 1.75mm; Mouser Part Number: 926-LM4890M/NOPB; Mouser Price/Stock: https://www.mouser.co.uk/ProductDetail/Texas-Instruments/LM4890M-NOPB?qs=QbsRYf82W3H2uo8qVqZ%252BRw%3D%3D; Arrow Part Number: LM4890M/NOPB; Arrow Price/Stock: https://www.arrow.com/en/products/lm4890mnopb/texas-instruments
footprint SOIC127P600X175-8N
pins: 1 ~{SHUTDOWN}, 2 BYPASS, 3 +IN, 4 -IN, 5 VO_1, 6 VDD, 7 GND, 8 VO2

## LSM303D
designator AC?
Accelerometer; Manufacturer_Name: STMicroelectronics; Manufacturer_Part_Number: LSM303D; Datasheet Link: http://www.st.com/web/en/resource/technical/document/datasheet/DM00057547.pdf; Height: 1mm; Mouser Part Number: 511-LSM303D; Mouser Price/Stock: https://www.mouser.co.uk/ProductDetail/STMicroelectronics/LSM303D?qs=wb8ihnf2nyVZyWEdbUG3oQ%3D%3D
footprint PQFN50P300X300X100-16N
pins: 1 VDD_IO (power), 2 SETC, 3 SETP, 4 SCL/SPC, 5 GND_1 (power), 6 SDA/SDI/SDO, 7 SDO/SA0, 8 CS (in), 9 INT2 (in), 10 RESERVED, 11 INT1 (in), 12 GND_2 (power), 13 GND_3 (power), 14 VDD (power), 15 C1, 16 GND_4 (power)

## MAX485ESA+T
designator IC?
Integrated Circuit; Manufacturer_Name: Analog Devices; Manufacturer_Part_Number: MAX485ESA+T; Datasheet Link: https://datasheets.maximintegrated.com/en/ds/MAX1487-MAX491.pdf; Height: 1.75mm; Mouser Part Number: 700-MAX485ESAT; Mouser Price/Stock: https://www.mouser.co.uk/ProductDetail/Analog-Devices-Maxim-Integrated/MAX485ESA%2bT?qs=LHmEVA8xxfYXmvxEk%252BFtEg%3D%3D; Arrow Part Number: MAX485ESA+T; Arrow Price/Stock: https://www.arrow.com/en/products/max485esat/maxim-integrated?region=nac
footprint SOIC127P600X175-8N
pins: 1 RO, 2 ~{RE}, 3 DE, 4 DI, 5 GND, 6 A, 7 B, 8 VCC

## MBR360G
designator D?
Schottky Diode; Manufacturer_Name: onsemi; Manufacturer_Part_Number: MBR360G; Datasheet Link: https://www.onsemi.com/pub/Collateral/MBR350-D.PDF; Mouser Part Number: 863-MBR360G; Mouser Price/Stock: https://www.mouser.co.uk/ProductDetail/onsemi/MBR360G?qs=3JMERSakebrDB2Vj%252Bnts6A%3D%3D; Arrow Part Number: MBR360G; Arrow Price/Stock: https://www.arrow.com/en/products/mbr360g/on-semiconductor?region=europe
footprint DIOAD2860W130L840D505
pins: 1 K, 2 A

## MCMT21N470F250CT
designator C?
Capacitor; Manufacturer_Name: MULTICOMP; Manufacturer_Part_Number: MCMT21N470F250CT; Datasheet Link: http://www.farnell.com/datasheets/2873537.pdf; Height: 0.9mm
footprint CAPC2012X90N
pins: 1, 2

## MEM1608P25R0T001
designator FL?
Filter; Manufacturer_Name: TDK; Manufacturer_Part_Number: MEM1608P25R0T001; Datasheet Link: https://product.tdk.com/system/files/dam/doc/product/emc/emc/3tf/catalog/3tf_commercial_signal_mem1608p_en.pdf; Height: 0.7mm; Mouser Part Number: 810-MEM1608P25R0T001; Mouser Price/Stock: https://www.mouser.co.uk/ProductDetail/TDK/MEM1608P25R0T001?qs=YdQ7Kj7W0by5CC76gaD2UQ%3D%3D; Arrow Part Number: MEM1608P25R0T001; Arrow Price/Stock: https://www.arrow.com/en/products/mem1608p25r0t001/tdk
footprint MEM1608P25R0T001
pins: 1 IN/OUT, 2 GND, 3 OUT/IN

## MOC207M
designator IC?
Integrated Circuit; Manufacturer_Name: onsemi; Manufacturer_Part_Number: MOC207M; Datasheet Link: https://www.onsemi.com/pub/Collateral/MOC217M-D.pdf; Height: 3.63mm; Mouser Part Number: 512-MOC207M; Mouser Price/Stock: https://www.mouser.co.uk/ProductDetail/ON-Semiconductor-Fairchild/MOC207M?qs=NkuxCoaTQKYYnjhPw1nang%3D%3D; Arrow Part Number: MOC207M; Arrow Price/Stock: https://www.arrow.com/en/products/moc207m/on-semiconductor
footprint SOIC127P594X363-8N
pins: 1 ANODE, 2 CATHODE, 3 N/C_1, 4 N/C_2, 5 EMITTER, 6 COLLECTOR, 7 BASE, 8 N/C_3

## MOCD213M
designator Q?
Phototransistor; Manufacturer_Name: onsemi; Manufacturer_Part_Number: MOCD213M; Datasheet Link: https://www.onsemi.com/pub/Collateral/MOCD217M-D.PDF; Height: 3.63mm; Mouser Part Number: 512-MOCD213M; Mouser Price/Stock: https://www.mouser.co.uk/ProductDetail/onsemi-Fairchild/MOCD213M?qs=RjNHq7A%252BoByGDKDZzvsU0g%3D%3D; Arrow Part Number: MOCD213M; Arrow Price/Stock: https://www.arrow.com/en/products/mocd213m/on-semiconductor?region=nac
footprint SOIC127P594X363-8N
pins: 1 ANODE_1, 2 CATHODE_1, 3 ANODE_2, 4 CATHODE_2, 5 EMITTER_2, 6 COLLECTOR_2, 7 EMITTER_1, 8 COLLECTOR_1

## MP1907AGQ-P
designator IC?
Integrated Circuit; Manufacturer_Name: Monolithic Power Systems (MPS); Manufacturer_Part_Number: MP1907AGQ-P; Datasheet Link: https://datasheet.datasheetarchive.com/originals/distributors/DKDS-31/604874.pdf; Height: 1mm; Mouser Part Number: 946-MP1907AGQ-P; Mouser Price/Stock: https://www.mouser.co.uk/ProductDetail/Monolithic-Power-Systems-MPS/MP1907AGQ-P?qs=493kPxzlxfIZO4BhxShL1A%3D%3D
footprint SON50P300X300X100-11N-D
pins: 1 VDD, 2 NC, 3 BST, 4 DRVH, 5 SW, 6 EN, 7 INH, 8 INL, 9 VSS, 10 DRVL, 11 EP

## MPU-6000
designator IC?
Integrated Circuit; Manufacturer_Name: TDK; Datasheet Link: https://product.tdk.com/system/files/dam/doc/product/sensor/mortion-inertial/imu/data_sheet/mpu-6000-datasheet1.pdf; Height: 0.95mm; Manufacturer_Part_Number: MPU-6000; Mouser Part Number: 410-MPU-6000; Mouser Price/Stock: https://www.mouser.co.uk/ProductDetail/TDK-InvenSense/MPU-6000?qs=u4fy%2FsgLU9NMLimeLRzXLA%3D%3D; Arrow Part Number: MPU-6000; Arrow Price/Stock: https://www.arrow.com/en/products/mpu-6000/invensense?region=nac
footprint QFN50P400X400X95-25N
pins: 1 CLKIN, 2 NC_1, 3 NC_2, 4 NC_3, 5 NC_4, 6 AUX_DA, 7 AUX_CL, 8 ~{CS}, 9 AD0/SDO, 10 REGOUT, 11 FSYNC, 12 INT, 13 VDD, 14 NC_5, 15 NC_6, 16 NC_7, 17 NC_8, 18 GND, 19 RESV_1, 20 CPOUT, 21 RESV_2, 22 RESV_3, 23 SCL/SCLK, 24 SDA/SDI, 25 EP

## MS561101BA03-50
designator IC?
Integrated Circuit; Manufacturer_Name: TE Connectivity; Manufacturer_Part_Number: MS561101BA03-50; Datasheet Link: http://www.te.com/usa-en/search.html?q=ms5611&source=header; Mouser Part Number: 824-MS561101BA03-50; Mouser Price/Stock: https://www.mouser.co.uk/ProductDetail/Measurement-Specialties/MS561101BA03-50?qs=%252BgKeJhng5iV%252BnCz6Qd5iDw%3D%3D; Arrow Part Number: MS561101BA03-50; Arrow Price/Stock: https://www.arrow.com/en/products/ms561101ba03-50/te-connectivity?region=europe
footprint MS561101BA03-50
pins: 1 VDD (power), 2 PS (in), 3 GND (power), 4 CSB_1 (in), 5 CSB_2 (in), 6 SDO (out), 7 SDI/SDA (io), 8 SCLK (in)

## NE555DR
designator IC?
Integrated Circuit; Manufacturer_Name: Texas Instruments; Manufacturer_Part_Number: NE555DR; Datasheet Link: http://www.ti.com/lit/ds/symlink/ne555.pdf; Height: 1.75mm; Mouser Part Number: 595-NE555DR; Mouser Price/Stock: https://www.mouser.com/Search/Refine.aspx?Keyword=595-NE555DR; RS Part Number: 1218414; RS Price/Stock: http://uk.rs-online.com/web/p/products/1218414
footprint SOIC127P600X175-8N
pins: 1 GND (power), 2 TRIG (in), 3 OUT (out), 4 ~{RESET} (in), 5 CONT (io), 6 THRES (in), 7 DISCH (out), 8 VCC (power)

## NJM4558M
designator IC?
Integrated Circuit; Manufacturer_Name: New Japan Radio; Manufacturer_Part_Number: NJM4558M; Datasheet Link: https://datasheet.datasheetarchive.com/originals/distributors/Datasheets-110/DSAP00647.pdf; Height: 2mm; Mouser Part Number: 513-NJM4558M; Mouser Price/Stock: https://www.mouser.co.uk/ProductDetail/NJR/NJM4558M?qs=oJau8G8TiWpl9LdTIEZ1oQ%3D%3D
footprint SOIC127P680X200-8N
pins: 1 A_OUTPUT, 2 A_-INPUT, 3 A_+INPUT, 4 V-, 5 B_+INPUT, 6 B_-INPUT, 7 B_OUTPUT, 8 V+

## NX5032GA-8MHZ-EXS00A-CG07039
designator Y?
Crystal or Oscillator; Manufacturer_Name: NDK; Manufacturer_Part_Number: NX5032GA-8MHZ-EXS00A-CG07039; Datasheet Link: https://media.digikey.com/pdf/Data%20Sheets/NDK%20PDFs/NX5032GA-8MHz-EXS00A-CG07039.pdf; Height: 1.5mm
footprint NX5032GA8MHZEXS00ACG07039
pins: 2 CRYSTAL_2, ?1

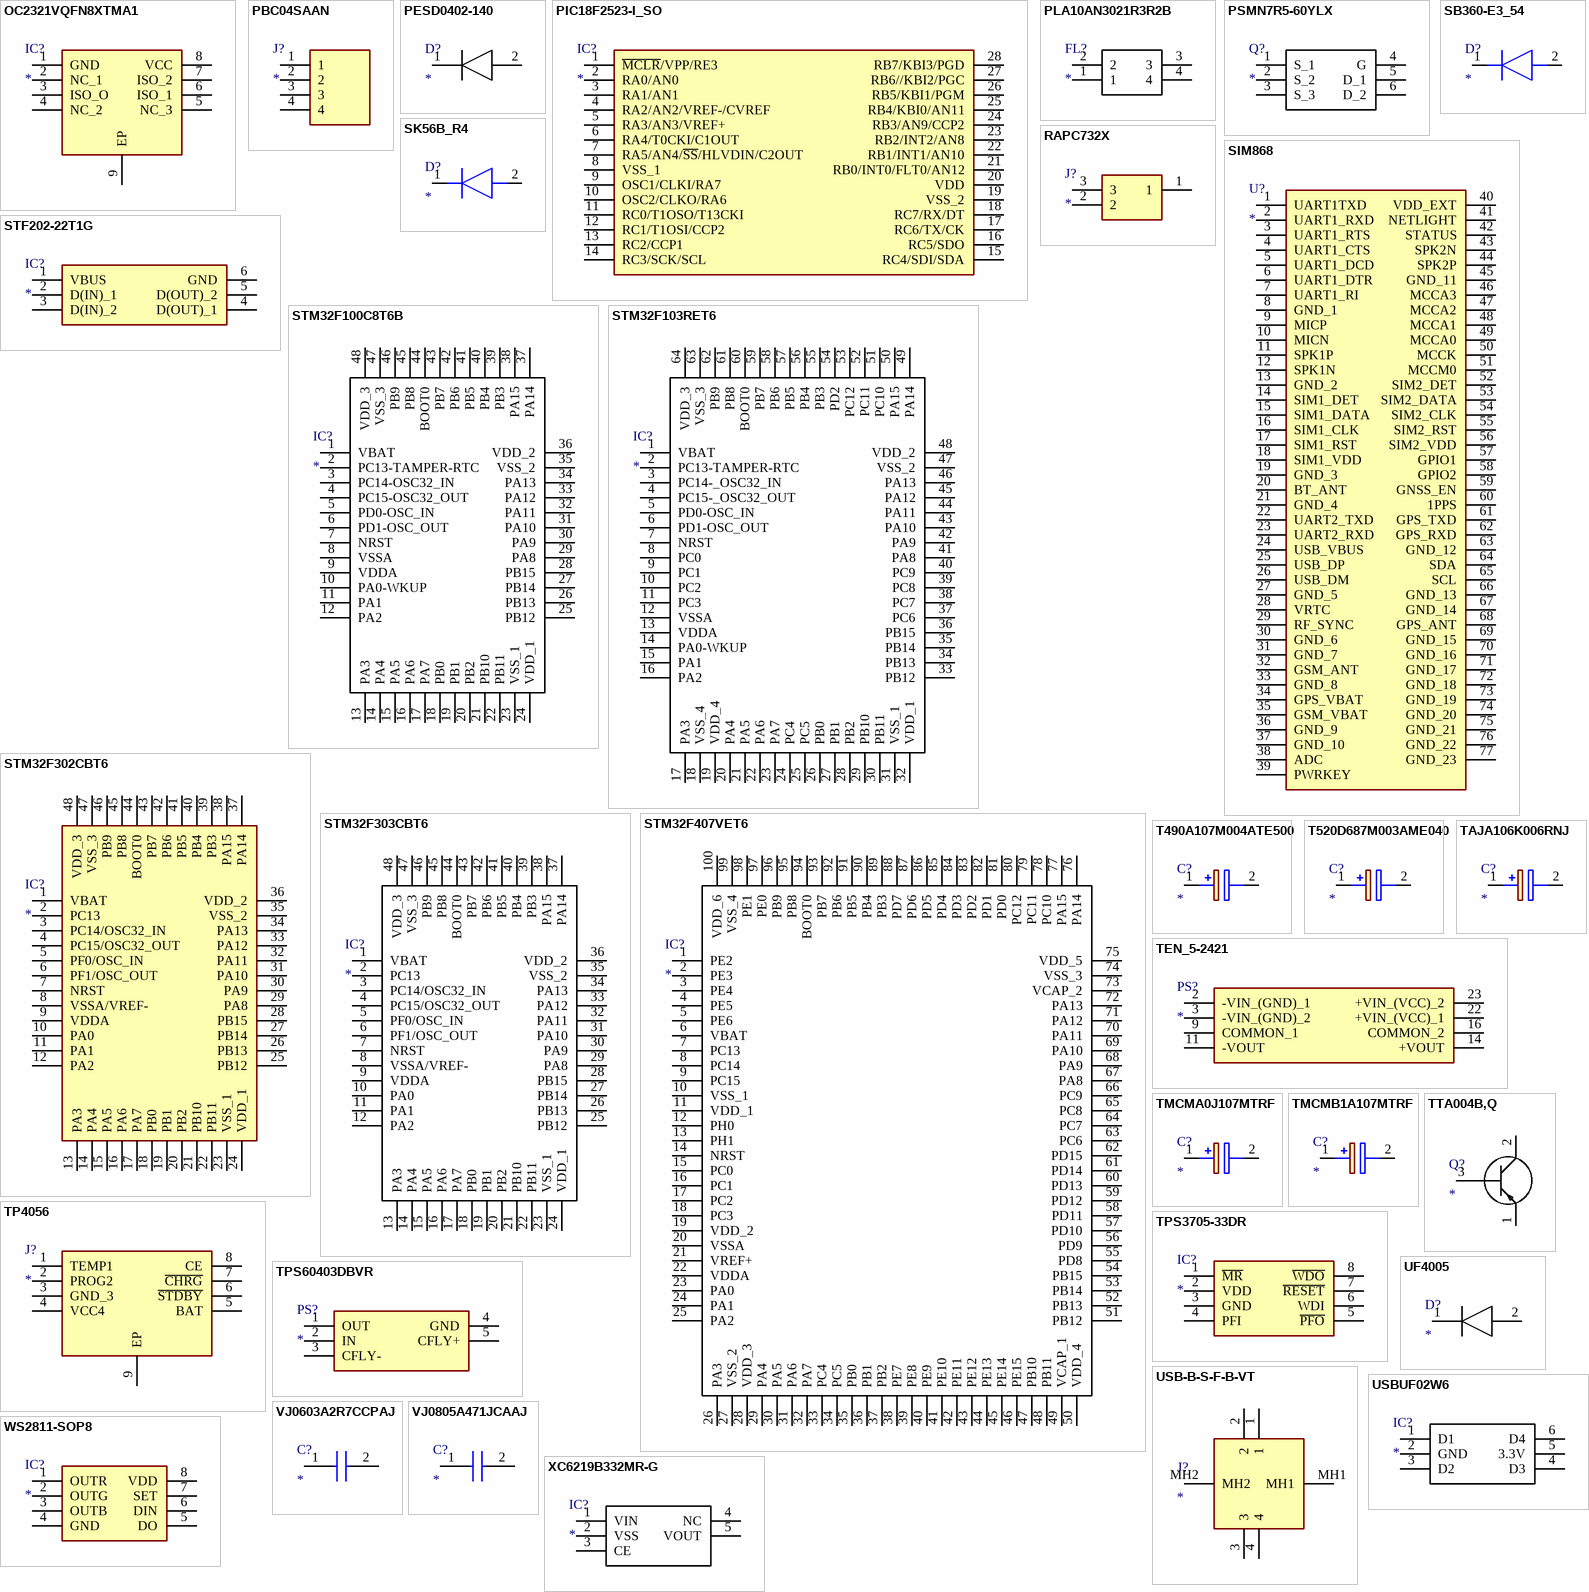
[diagram p2: symbols OC2321VQFN8XTMA1 to XC6219B332MR-G]

## OC2321VQFN8XTMA1
designator IC?
Integrated Circuit; Manufacturer_Name: Infineon; Manufacturer_Part_Number: OC2321VQFN8XTMA1; Datasheet Link: https://www.infineon.com/dgdl/Infineon-Datasheet_OPTIGA_Connect_IoT-DataSheet-v01_00-EN.pdf?fileId=5546d462749a7c2d01749b3873b90f57; Height: 0.9mm; Arrow Part Number: OC2321VQFN8XTMA1; Arrow Price/Stock: https://www.arrow.com/en/products/oc2321vqfn8xtma1/infineon-technologies-ag?region=nac
footprint SON127P600X500X90-9N-D
pins: 1 GND, 2 NC_1, 3 ISO_O, 4 NC_2, 5 NC_3, 6 ISO_1, 7 ISO_2, 8 VCC, 9 EP

## PBC04SAAN
designator J?
Connector; Manufacturer_Name: Sullins; Manufacturer_Part_Number: PBC04SAAN; Datasheet Link: http://www.sullinscorp.com/drawings/77____C___S___N-OMIT,_M500,_STRAIGHT,_C10436.pdf; Height: 4.2mm
footprint HDRV4W55P0X127_1X4_508X214X420P
pins: 1, 2, 3, 4

## PESD0402-140
designator D?
Diode; Manufacturer_Name: TE Connectivity; Manufacturer_Part_Number: PESD0402-140; Datasheet Link: https://datasheet.datasheetarchive.com/originals/distributors/Datasheets_SAMA/56453c9e7d16e16b45297983777b3114.pdf; Height: 0.43mm
footprint DIONC1005X43N
pins: 1 K, 2 A

## PIC18F2523-I_SO
designator IC?
Integrated Circuit; Manufacturer_Name: Microchip; Manufacturer_Part_Number: PIC18F2523-I/SO; Datasheet Link: http://ww1.microchip.com/downloads/en/DeviceDoc/39755c.pdf; Height: 2.65mm; Mouser Part Number: 579-PIC18F2523-I/SO; Mouser Price/Stock: https://www.mouser.co.uk/ProductDetail/Microchip-Technology/PIC18F2523-I-SO?qs=5Wx0vN22rFIo4G4CArgF8g%3D%3D; Arrow Part Number: PIC18F2523-I/SO; Arrow Price/Stock: https://www.arrow.com/en/products/pic18f2523-iso/microchip-technology?region=nac
footprint SOIC127P1030X265-28N
pins: 1 ~{MCLR}/VPP/RE3, 2 RA0/AN0, 3 RA1/AN1, 4 RA2/AN2/VREF-/CVREF, 5 RA3/AN3/VREF+, 6 RA4/T0CKI/C1OUT, 7 RA5/AN4/~{SS}/HLVDIN/C2OUT, 8 VSS_1, 9 OSC1/CLKI/RA7, 10 OSC2/CLKO/RA6, 11 RC0/T1OSO/T13CKI, 12 RC1/T1OSI/CCP2, 13 RC2/CCP1, 14 RC3/SCK/SCL, 15 RC4/SDI/SDA, 16 RC5/SDO, 17 RC6/TX/CK, 18 RC7/RX/DT, 19 VSS_2, 20 VDD, 21 RB0/INT0/FLT0/AN12, 22 RB1/INT1/AN10, 23 RB2/INT2/AN8, 24 RB3/AN9/CCP2, 25 RB4/KBI0/AN11, 26 RB5/KBI1/PGM, 27 RB6//KBI2/PGC, 28 RB7/KBI3/PGD

## PLA10AN3021R3R2B
designator FL?
Filter; Manufacturer_Name: Murata Electronics; Manufacturer_Part_Number: PLA10AN3021R3R2B; Datasheet Link: https://www.murata.com/en-eu/api/pdfdownloadapi?cate=cgsubAcLineFilters&partno=PLA10AN3021R3R2B; Height: 17mm; Mouser Part Number: 81-PLA10AN3021R3R2B; Mouser Price/Stock: https://www.mouser.com/Search/Refine.aspx?Keyword=81-PLA10AN3021R3R2B; Arrow Part Number: PLA10AN3021R3R2B; Arrow Price/Stock: https://www.arrow.com/en/products/pla10an3021r3r2b/murata-manufacturing
footprint PLA10AS3021R3R2B
pins: 1, 2, 3, 4

## PSMN7R5-60YLX
designator Q?
MOSFET (N-Channel); Manufacturer_Name: Nexperia; Manufacturer_Part_Number: PSMN7R5-60YLX; Datasheet Link: https://assets.nexperia.com/documents/data-sheet/PSMN7R5-60YL.pdf; Height: 1.2mm; Mouser Part Number: 771-PSMN7R5-60YLX; Mouser Price/Stock: https://www.mouser.co.uk/ProductDetail/Nexperia/PSMN7R5-60YLX?qs=GIi83qBHgimIzUXrSZq0mQ%3D%3D; Arrow Part Number: PSMN7R5-60YLX; Arrow Price/Stock: https://www.arrow.com/en/products/psmn7r5-60ylx/nexperia
footprint PSMN7R560YLX
pins: 1 S_1, 2 S_2, 3 S_3, 4 G, 5 D_1, 6 D_2

## RAPC732X
designator J?
Connector; Manufacturer_Name: Switchcraft; Manufacturer_Part_Number: RAPC732X; Datasheet Link: http://www.switchcraft.com/Drawings/rapc732x_cd.pdf; Height: 11mm; Mouser Part Number: 502-RAPC732X; Mouser Price/Stock: https://www.mouser.co.uk/ProductDetail/Switchcraft/RAPC732X?qs=mcPJWgAPNrf44q5B71nLHg%3D%3D; Arrow Part Number: RAPC732X; Arrow Price/Stock: https://www.arrow.com/en/products/rapc732x/switchcraft?region=nac
footprint RAPC732X
pins: 1, 2, 3

## SB360-E3_54
designator D?
Diode; Manufacturer_Name: Vishay; Manufacturer_Part_Number: SB360-E3/54; Datasheet Link: https://componentsearchengine.com/Datasheets/2/SB360-E3_54.pdf; Mouser Part Number: 625-SB360-E3/54; Mouser Price/Stock: https://www.mouser.co.uk/ProductDetail/Vishay-General-Semiconductor/SB360-E3-54?qs=u91jd7aysvMH6NT098S31Q%3D%3D; Arrow Part Number: SB360-E3/54; Arrow Price/Stock: https://www.arrow.com/en/products/sb360-e354/vishay
footprint DIOAD2855W132L835D505
pins: 1 K, 2 A

## SIM868
designator U?
Undefined or Miscellaneous; Manufacturer_Name: SIMCOM; Manufacturer_Part_Number: SIM868
footprint SIM868
pins: 1 UART1TXD, 2 UART1_RXD, 3 UART1_RTS, 4 UART1_CTS, 5 UART1_DCD, 6 UART1_DTR, 7 UART1_RI, 8 GND_1, 9 MICP, 10 MICN, 11 SPK1P, 12 SPK1N, 13 GND_2, 14 SIM1_DET, 15 SIM1_DATA, 16 SIM1_CLK, 17 SIM1_RST, 18 SIM1_VDD, 19 GND_3, 20 BT_ANT, 21 GND_4, 22 UART2_TXD, 23 UART2_RXD, 24 USB_VBUS, 25 USB_DP, 26 USB_DM, 27 GND_5, 28 VRTC, 29 RF_SYNC, 30 GND_6, 31 GND_7, 32 GSM_ANT, 33 GND_8, 34 GPS_VBAT, 35 GSM_VBAT, 36 GND_9, 37 GND_10, 38 ADC, 39 PWRKEY, 40 VDD_EXT, 41 NETLIGHT, 42 STATUS, 43 SPK2N, 44 SPK2P, 45 GND_11, 46 MCCA3, 47 MCCA2, 48 MCCA1, 49 MCCA0, 50 MCCK, 51 MCCM0, 52 SIM2_DET, 53 SIM2_DATA, 54 SIM2_CLK, 55 SIM2_RST, 56 SIM2_VDD, 57 GPIO1, 58 GPIO2, 59 GNSS_EN, 60 1PPS, 61 GPS_TXD, 62 GPS_RXD, 63 GND_12, 64 SDA, 65 SCL, 66 GND_13, 67 GND_14, 68 GPS_ANT, 69 GND_15, 70 GND_16, 71 GND_17, 72 GND_18, 73 GND_19, 74 GND_20, 75 GND_21, 76 GND_22, 77 GND_23

## SK56B_R4
designator D?
Diode; Manufacturer_Name: Taiwan Semiconductor; Manufacturer_Part_Number: SK56B R4; Datasheet Link: http://uk.rs-online.com/web/p/products/7435961; Height: 2.61mm; Mouser Part Number: 821-SK56BR4; Mouser Price/Stock: https://www.mouser.co.uk/ProductDetail/Taiwan-Semiconductor/SK56B-R4?qs=dv9KMQQLqv2dVamkdcQQcQ%3D%3D; Arrow Part Number: SK56B R4; Arrow Price/Stock: https://www.arrow.com/en/products/sk56br4/taiwan-semiconductor
footprint DIONM5236X261N
pins: 1 K, 2 A

## STF202-22T1G
designator IC?
Integrated Circuit; Manufacturer_Name: onsemi; Manufacturer_Part_Number: STF202-22T1G; Datasheet Link: http://www.onsemi.com/pub/Collateral/STF202-22T1-D.PDF; Height: 1.1mm; Mouser Part Number: 863-STF202-22T1G; Mouser Price/Stock: https://www.mouser.co.uk/ProductDetail/onsemi/STF202-22T1G?qs=xZq1yRCsb1dM1UQ1NtNRtw%3D%3D; Arrow Part Number: STF202-22T1G; Arrow Price/Stock: https://www.arrow.com/en/products/stf202-22t1g/on-semiconductor?region=nac
footprint SOT95P275X110-6N
pins: 1 VBUS, 2 D(IN)_1, 3 D(IN)_2, 4 D(OUT)_1, 5 D(OUT)_2, 6 GND

## STM32F100C8T6B
designator IC?
Integrated Circuit; Manufacturer_Name: STMicroelectronics; Manufacturer_Part_Number: STM32F100C8T6B; Datasheet Link: http://www.st.com/st-web-ui/static/active/en/resource/technical/document/datasheet/CD00251732.pdf; Height: 1.6mm; Mouser Part Number: 511-STM32F100C8T6B; Mouser Price/Stock: https://www.mouser.co.uk/ProductDetail/STMicroelectronics/STM32F100C8T6B?qs=eF7XX6ARXFFLMxdN%252B%2FMUGw%3D%3D; Arrow Part Number: STM32F100C8T6B; Arrow Price/Stock: https://www.arrow.com/en/products/stm32f100c8t6b/stmicroelectronics
footprint QFP50P900X900X160-48N
pins: 1 VBAT, 2 PC13-TAMPER-RTC, 3 PC14-OSC32_IN, 4 PC15-OSC32_OUT, 5 PD0-OSC_IN, 6 PD1-OSC_OUT, 7 NRST, 8 VSSA, 9 VDDA, 10 PA0-WKUP, 11 PA1, 12 PA2, 13 PA3, 14 PA4, 15 PA5, 16 PA6, 17 PA7, 18 PB0, 19 PB1, 20 PB2, 21 PB10, 22 PB11, 23 VSS_1, 24 VDD_1, 25 PB12, 26 PB13, 27 PB14, 28 PB15, 29 PA8, 30 PA9, 31 PA10, 32 PA11, 33 PA12, 34 PA13, 35 VSS_2, 36 VDD_2, 37 PA14, 38 PA15, 39 PB3, 40 PB4, 41 PB5, 42 PB6, 43 PB7, 44 BOOT0, 45 PB8, 46 PB9, 47 VSS_3, 48 VDD_3

## STM32F103RET6
designator IC?
Integrated Circuit; Manufacturer_Name: STMicroelectronics; Manufacturer_Part_Number: STM32F103RET6; Datasheet Link: http://www.st.com/st-web-ui/static/active/en/resource/technical/document/datasheet/CD00191185.pdf; Height: 1.6mm; Mouser Part Number: 511-STM32F103RET6; Mouser Price/Stock: https://www.mouser.co.uk/ProductDetail/STMicroelectronics/STM32F103RET6?qs=tZXS5FmuAdnGL83bu1Xcew%3D%3D; Arrow Part Number: STM32F103RET6; Arrow Price/Stock: https://www.arrow.com/en/products/stm32f103ret6/stmicroelectronics?region=europe
footprint QFP50P1200X1200X160-64N (Footprint not found)
pins: 1 VBAT, 2 PC13-TAMPER-RTC, 3 PC14-_OSC32_IN, 4 PC15-_OSC32_OUT, 5 PD0-OSC_IN, 6 PD1-OSC_OUT, 7 NRST, 8 PC0, 9 PC1, 10 PC2, 11 PC3, 12 VSSA, 13 VDDA, 14 PA0-WKUP, 15 PA1, 16 PA2, 17 PA3, 18 VSS_4, 19 VDD_4, 20 PA4, 21 PA5, 22 PA6, 23 PA7, 24 PC4, 25 PC5, 26 PB0, 27 PB1, 28 PB2, 29 PB10, 30 PB11, 31 VSS_1, 32 VDD_1, 33 PB12, 34 PB13, 35 PB14, 36 PB15, 37 PC6, 38 PC7, 39 PC8, 40 PC9, 41 PA8, 42 PA9, 43 PA10, 44 PA11, 45 PA12, 46 PA13, 47 VSS_2, 48 VDD_2, 49 PA14, 50 PA15, 51 PC10, 52 PC11, 53 PC12, 54 PD2, 55 PB3, 56 PB4, 57 PB5, 58 PB6, 59 PB7, 60 BOOT0, 61 PB8, 62 PB9, 63 VSS_3, 64 VDD_3